# Altium footprint library PCB.PCBLIB: 320 footprints (part 13 of 20)
Each footprint in its own frame and in the unit in brackets; x right, y up, seen from the top. Pads: shape width x height; smd on the part's side, far side on the other; paste and mask are expansions set on the pad; w line width, h text height; cw(c..) or ccw(c..) is an arc to the next point about the centre after c.
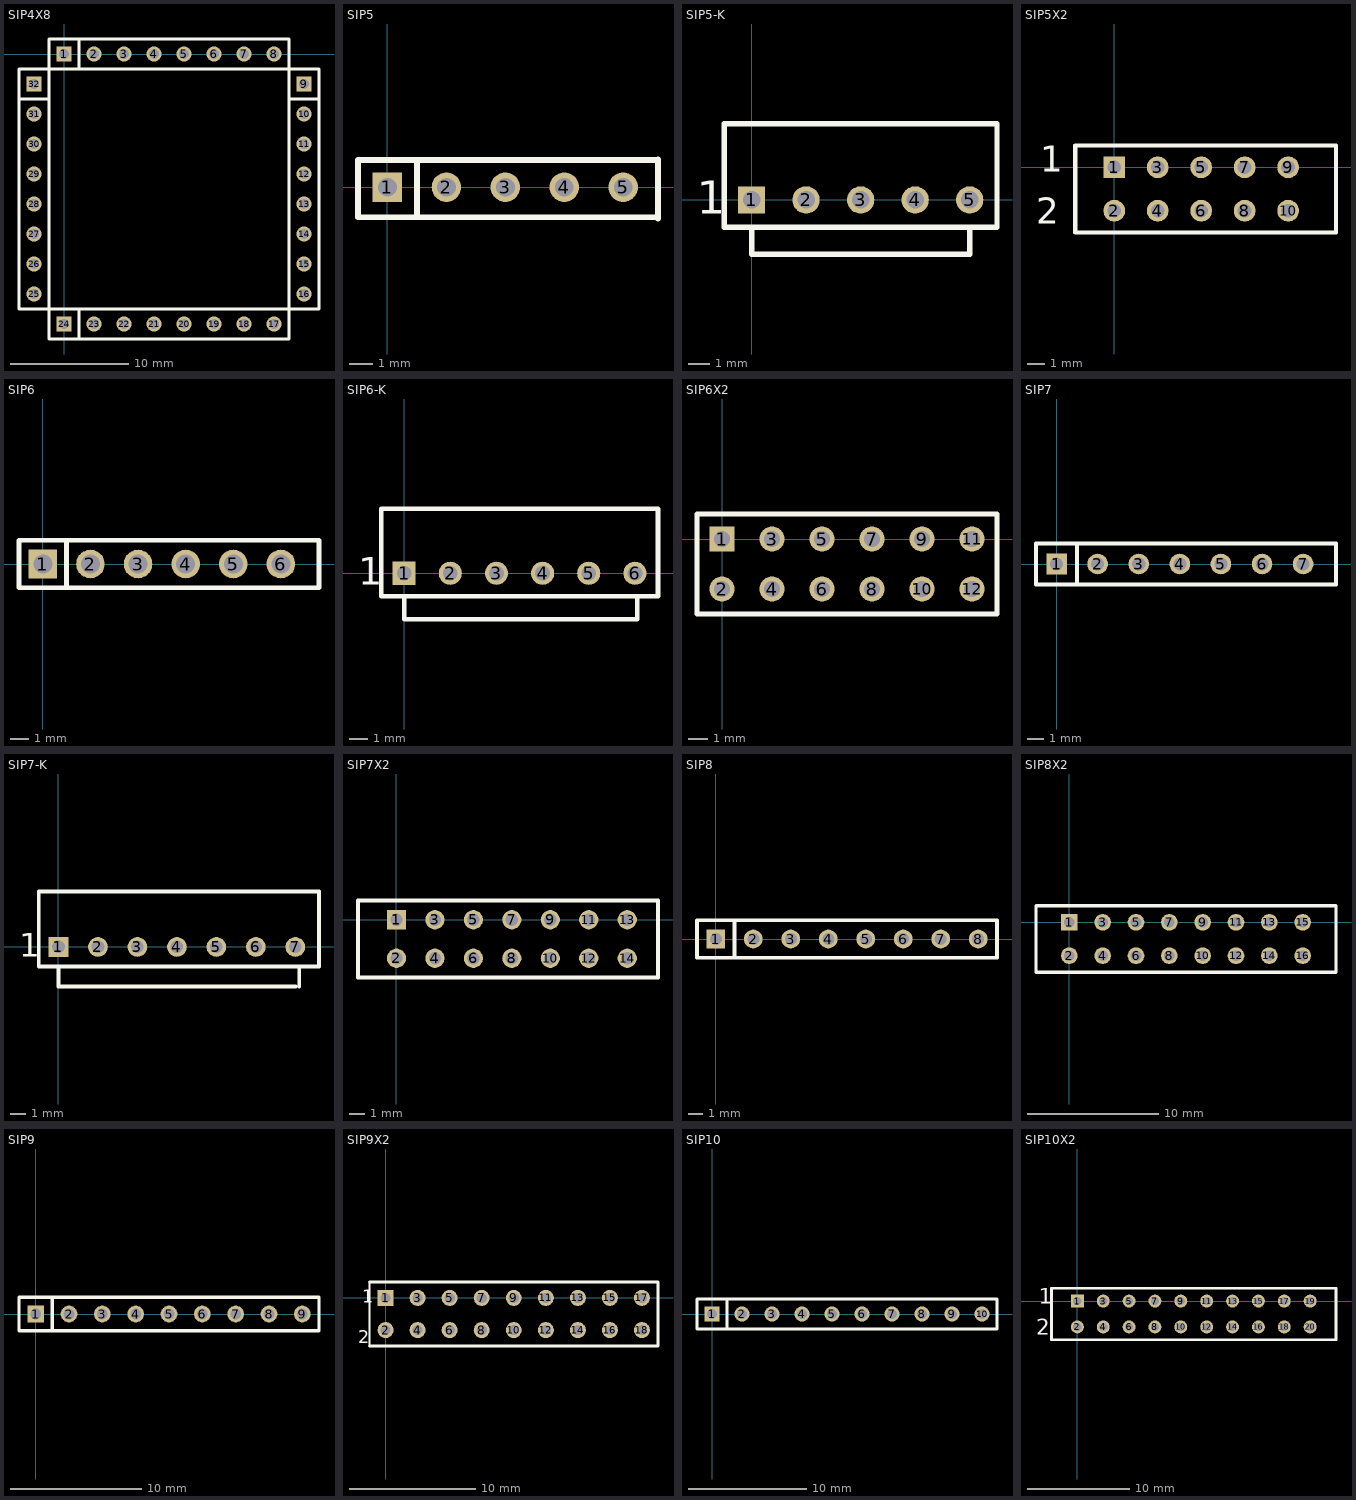
[diagram p12: the footprints below, top view; thin cyan lines are the x and y axes]

## SIP4X8 [mil]
pads (32):
  rect 50x50 hole 32: 1(0,0) 9(800,-100) 24(0,-900) 32(-100,-100)
  round 50 hole 32: 2(100,0) 3(200,0) 4(300,0) 5(400,0) 6(500,0) 7(600,0) 8(700,0) 10(800,-200) 11(800,-300) 12(800,-400) 13(800,-500) 14(800,-600) 15(800,-700) 16(800,-800) 17(700,-900) 18(600,-900) 19(500,-900) 20(400,-900) 21(300,-900) 22(200,-900) 23(100,-900) 25(-100,-800) 26(-100,-700) 27(-100,-600) 28(-100,-500) 29(-100,-400) 30(-100,-300) 31(-100,-200)
TopOverlay:
  lines w10: -150,-150 -50,-150 ; 50,-950 50,-850 ; 50,-50 50,50 ; 750,-150 850,-150 ; -50,-850 -50,-50 ; -50,-850 -150,-850 -150,-50 -50,-50 ; -50,-850 -50,-950 750,-950 750,-850 ; -50,-850 750,-850 ; -50,-50 -50,50 750,50 750,-50 ; -50,-50 750,-50 ; 750,-850 850,-850 850,-50 750,-50 ; 750,-850 750,-50

## SIP5 [mil]
pads (5):
  rect 50x50 hole 32: 1(0,0)
  round 50 hole 32: 2(100,0) 3(200,0) 4(300,0) 5(400,0)
TopOverlay:
  lines w10: -50,-51 459,-51 ; -50,-50 -50,45 ; -50,46 459,46 ; 50,-50 50,45 ; 459,-53 459,47

## SIP5-K [mil]
pads (5):
  rect 50x50 hole 32: 1(0,0)
  round 50 hole 32: 2(100,0) 3(200,0) 4(300,0) 5(400,0)
TopOverlay:
  lines w10: 0,-50 0,-100 400,-100 400,-50 ; -50,-50 -50,140 450,140 450,-50 -50,-50
  text "1" at -100,-25 h60

## SIP5X2 [mil]
pads (10):
  rect 50x50 hole 32: 1(0,0)
  round 50 hole 32: 2(0,-100) 3(100,0) 4(100,-100) 5(200,0) 6(200,-100) 7(300,0) 8(300,-100) 9(400,0) 10(400,-100)
TopOverlay:
  lines w10: -90,-150 510,-150 510,-50 510,50 -90,50 -90,-50 -90,-150
  text "2" at -180,-130 h60
  text "1" at -170,-10 h60

## SIP6 [mil]
pads (6):
  rect 60x60 hole 40: 1(0,0)
  round 60 hole 40: 2(100,0) 3(200,0) 4(300,0) 5(400,0) 6(500,0)
TopOverlay:
  lines w10: 50,-50 50,50 ; -50,-50 580,-50 580,50 -50,50 -50,-50

## SIP6-K [mil]
pads (6):
  rect 50x50 hole 32: 1(0,0)
  round 50 hole 32: 2(100,0) 3(200,0) 4(300,0) 5(400,0) 6(500,0)
TopOverlay:
  lines w10: 0,-50 0,-100 505,-100 505,-50 ; -50,-50 -50,140 550,140 550,-50 -50,-50
  text "1" at -100,-25 h60

## SIP6X2 [mil]
pads (12):
  rect 50x50 hole 32: 1(0,0)
  round 50 hole 32: 2(0,-100) 3(100,0) 4(100,-100) 5(200,0) 6(200,-100) 7(300,0) 8(300,-100) 9(400,0) 10(400,-100) 11(500,0) 12(500,-100)
TopOverlay:
  lines w10: -50,-150 -50,50 550,50 550,-150 -50,-150

## SIP7 [mil]
pads (7):
  rect 50x50 hole 32: 1(0,0)
  round 50 hole 32: 2(100,0) 3(200,0) 4(300,0) 5(400,0) 6(500,0) 7(600,0)
TopOverlay:
  lines w10: 50,-50 50,50 ; -50,-50 680,-50 680,0 680,50 -50,50 -50,-50

## SIP7-K [mil]
pads (7):
  rect 50x50 hole 32: 1(0,0)
  round 50 hole 32: 2(100,0) 3(200,0) 4(300,0) 5(400,0) 6(500,0) 7(600,0)
TopOverlay:
  lines w10: 0,-50 0,-100 600,-100 ; 610,-100 610,-50 ; -50,-50 660,-50 660,140 -50,140 -50,-50
  text "1" at -100,-25 h60

## SIP7X2 [mil]
pads (14):
  rect 50x50 hole 32: 1(0,0)
  round 50 hole 32: 2(0,-100) 3(100,0) 4(100,-100) 5(200,0) 6(200,-100) 7(300,0) 8(300,-100) 9(400,0) 10(400,-100) 11(500,0) 12(500,-100) 13(600,0) 14(600,-100)
TopOverlay:
  lines w10: -100,-150 680,-150 680,50 -100,50 -100,-50 -100,-150

## SIP8 [mil]
pads (8):
  rect 50x50 hole 32: 1(0,0)
  round 50 hole 32: 2(100,0) 3(200,0) 4(300,0) 5(400,0) 6(500,0) 7(600,0) 8(700,0)
TopOverlay:
  lines w10: 50,-50 50,50 ; -50,-50 -50,50 750,50 750,-50 -50,-50

## SIP8X2 [mil]
pads (16):
  rect 50x50 hole 32: 1(0,0)
  round 50 hole 32: 2(0,-100) 3(100,0) 4(100,-100) 5(200,0) 6(200,-100) 7(300,0) 8(300,-100) 9(400,0) 10(400,-100) 11(500,0) 12(500,-100) 13(600,0) 14(600,-100) 15(700,0) 16(700,-100)
TopOverlay:
  lines w10: -100,-150 800,-150 800,50 -100,50 -100,-50 -100,-150

## SIP9 [mil]
pads (9):
  rect 50x50 hole 32: 1(0,0)
  round 50 hole 32: 2(100,0) 3(200,0) 4(300,0) 5(400,0) 6(500,0) 7(600,0) 8(700,0) 9(800,0)
TopOverlay:
  lines w10: 50,-50 50,50 ; -50,-50 850,-50 850,50 -50,50 -50,-50

## SIP9X2 [mil]
pads (18):
  rect 50x50 hole 32: 1(0,0)
  round 50 hole 32: 2(0,-100) 3(100,0) 4(100,-100) 5(200,0) 6(200,-100) 7(300,0) 8(300,-100) 9(400,0) 10(400,-100) 11(500,0) 12(500,-100) 13(600,0) 14(600,-100) 15(700,0) 16(700,-100) 17(800,0) 18(800,-100)
TopOverlay:
  lines w6: -50,-150 -50,50
  lines w10: -50,-150 850,-150 850,50 -50,50
  text "1" at -72,-15 h40
  text "2" at -86,-141 h40

## SIP10 [mil]
pads (10):
  rect 50x50 hole 32: 1(0,0)
  round 50 hole 32: 2(100,0) 3(200,0) 4(300,0) 5(400,0) 6(500,0) 7(600,0) 8(700,0) 9(800,0) 10(900,0)
TopOverlay:
  lines w10: 50,-50 50,50 ; -50,-50 -50,50 950,50 950,-50 -50,-50

## SIP10X2 [mil]
pads (20):
  rect 50x50 hole 32: 1(0,0)
  round 50 hole 32: 2(0,-100) 3(100,0) 4(100,-100) 5(200,0) 6(200,-100) 7(300,0) 8(300,-100) 9(400,0) 10(400,-100) 11(500,0) 12(500,-100) 13(600,0) 14(600,-100) 15(700,0) 16(700,-100) 17(800,0) 18(800,-100) 19(900,0) 20(900,-100)
TopOverlay:
  lines w10: -100,-150 1000,-150 1000,-50 1000,50 -100,50 -100,-50 -100,-150
  text "1" at -150,-10 h60
  text "2" at -160,-130 h60